# Altium schematic symbol library black_V6.SCHLIB: 16 symbols
Pins are listed as number, name and electrical type; pins without a type are passive.

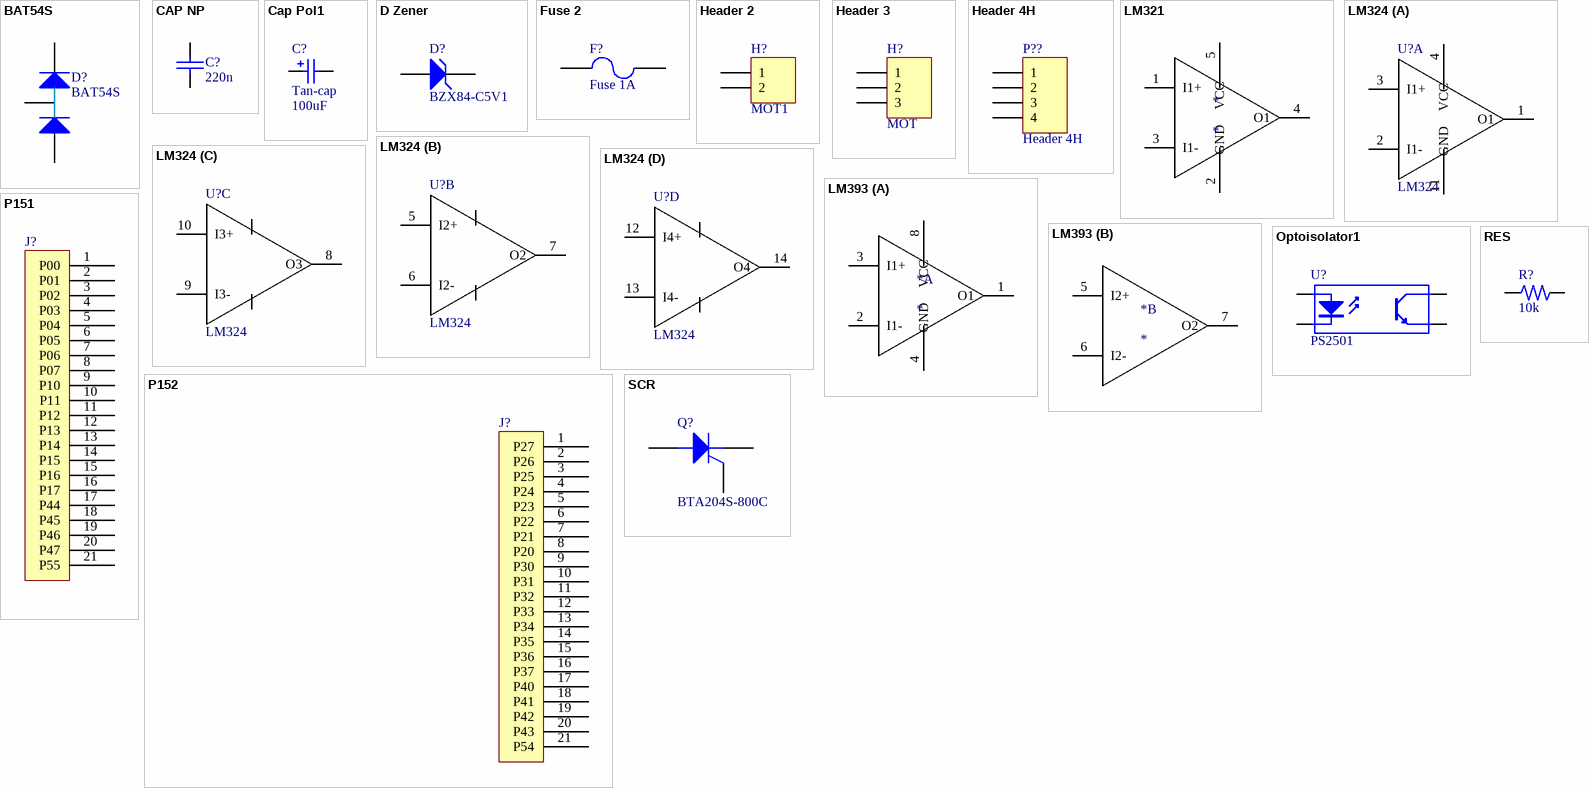
[diagram p0: symbols BAT54S to SCR]

## BAT54S
designator D?
Manufacturer: Vishay; Digikey: http://www.digikey.com/product-detail/en/BAT54S-HE3-18/BAT54S-HE3-18-ND/4826904; Part: BAT54s; Package: SOT23; Cost: 0.04
footprint sot23-D
footprint SOT23_D
pins: 1 A, 2 K, 3 S

## CAP NP
designator C?, comment 220n
CAP NL; manufacturer: Yageo; part number: CC0603KRX7R9BB103; remark: C-CAP 10N 50V X7R  0603 K
footprint C0603
footprint C0805
footprint 1608[0603] (Chip Capacitor; Body 1.6 x 0.8 mm (LxW typ))
footprint Y-cap
footprint R1206w
footprint 1812 (Chip Capacitor; Body 4.5 x 3.2 mm (LxW typ))
footprint R1206w
footprint filmcap
pins: 1, 2

## Cap Pol1
designator C?, comment Tan-cap  value 100uF
Polarized Capacitor (Radial); Published: 8-Jun-2000; LatestRevisionDate: 17-Jul-2002; LatestRevisionNote: Re-released for DXP Platform.; PackageReference: RB7.6-15; Publisher: Altium Limited
footprint RB7.6-15 (Polarized Capacitor (Radial); 2 Leads)
footprint HA-C1 (Capacitor, Radial, Tantalum; Body 1.7 x 2.8 mm (Dia.xH max); Pin Spacing 1.27 mm (typ))
footprint A (Capacitor, Electrolytic, Radial; Body 4 x 5 mm (Dia.xH typ); Pin Spacing 1.5 mm (typ))
footprint B (Capacitor, Electrolytic, Radial; Body 5 x 6.8 mm (Dia.xH typ); Pin Spacing 2 mm (typ))
footprint CAPPR5-5x5 (Capacitor, Electrolytic, Radial; Body 5 x 5 mm (Dia.xH typ); Pin Spacing 5 mm (typ))
footprint CAPPR7.5-16x35 (Capacitor, Electrolytic, Radial; Body 16 x 35 mm (Dia.xH typ); Pin Spacing 7.5 mm (typ))
simulation model CAP (Capacitor)
signal-integrity model Cap Pol
footprint ecap
footprint R1206w
footprint ecap
pins: 1, 2
1 alternate drawing of the same symbol

## D Zener
designator D?, comment BZX84-C5V1
Zener Diode; Manufacturer: NXP; Published: 8-Jun-2000; LatestRevisionDate: 17-Jul-2002; LatestRevisionNote: Re-released for DXP Platform.; PackageReference: DIODE-0.7; Publisher: Altium Limited; Digikey: http://www.digikey.com/product-detail/en/BZX84-C5V1,215/568-1677-2-ND/763281; Part: BZX84-C5V1; Package: SOT23; Cost: 0.02
simulation model ZENER (Diode)
signal-integrity model D Zener
footprint SOT23 (SOT23, 3-Leads, Body 3.0x2.6mm (max), Pitch 0.95mm, IPC Medium Density)
footprint SOT23_D
pins: 1 A, 3 K

## Fuse 2
designator F?, comment Fuse 1A
Fuse; Part: 0251001MXL; Manufacturer: Littelfuse; Published: 8-Jun-2000; LatestRevisionDate: 17-Jul-2002; LatestRevisionNote: Re-released for DXP Platform.; PackageReference: PIN-W2/E2.8; Publisher: Altium Limited; Digikey: http://www.digikey.com/product-detail/en/0251001.MXL/F2313-ND/700718; Package: Axial; Cost: 0.3
footprint PIN-W2/E2.8 (Fuse; 2 Leads)
simulation model FUSE (Spice Subcircuit)
footprint FUSE
footprint FUSE_BOX
footprint FUSE_L
pins: 1, 2

## Header 2
designator H?, comment MOT1
Header, 2-Pin; LatestRevisionDate: 17-Jul-2002; LatestRevisionNote: Re-released for DXP Platform.; Publisher: Altium Limited
footprint HDR1X2 (Connector; Header; 2 Position)
signal-integrity model Connector
footprint cr2032
footprint MOT
pins: 1, 2

## Header 3
designator H?, comment MOT
Header, 3-Pin; Part: US1881; Manufacturer: Melexis; LatestRevisionDate: 17-Jul-2002; LatestRevisionNote: Re-released for DXP Platform.; Publisher: Altium Limited; Digikey: http://www.digikey.com/product-detail/en/US1881EUA-AAA-000-BU/US1881EUA-AAA-000-BU-ND/431867; Package: TO-92; Cost: 0.4
footprint HDR1X3 (Connector; Header; 3 Position)
signal-integrity model Connector
footprint M1881
footprint H_3
pins: 1, 2, 3

## Header 4H
designator P??
Header, 4-Pin, Right Angle; LatestRevisionDate: 17-Jul-2002; LatestRevisionNote: Re-released for DXP Platform.; Publisher: Altium Limited
footprint HDR1X4H (Connector; Header; 4 Position; Right Angle)
signal-integrity model Connector
pins: 1, 2, 3, 4

## LM321
designator *
footprint SOT23-5
pins: 1 I1+, 2 GND, 3 I1-, 4 O1, 5 VCC

## LM324
designator U?
footprint SOP14 (TSOP, 14-Leads, Body 8.6x4.0mm (max), Pitch 1.27mm, IPC Medium Density)
part A pins: 1 O1, 2 I1-, 3 I1+, 4 VCC, 11 GND
part B pins: 5 I2+, 6 I2-, 7 O2
part C pins: 8 O3, 9 I3-, 10 I3+
part D pins: 12 I4+, 13 I4-, 14 O4

## LM393
designator *
part A pins: 1 O1, 2 I1-, 3 I1+, 4 GND, 8 VCC
part B pins: 5 I2+, 6 I2-, 7 O2

## Optoisolator1
designator U?, comment PS2501
4-Pin Phototransistor Optocoupler; Published: 24-Mar-1999; LatestRevisionDate: 04-Mar-2005; LatestRevisionNote: Sch pins 3 & 4 Swapped.; DatasheetDocument: Nov-2003; PackageReference: DIP-4; Publisher: Altium Limited
footprint DIP-4 (DIP; 4 Leads; Row Spacing 7.62 mm; Pitch 2.54 mm)
footprint DIP-4SMD
pins: 1 A "Anode", 2 K "Cathode", 3 E "Emitter", 4 C "Collector"

## P151
designator J?
footprint J2
pins: 1 P00, 2 P01, 3 P02, 4 P03, 5 P04, 6 P05, 7 P06, 8 P07, 9 P10, 10 P11, 11 P12, 12 P13, 13 P14, 14 P15, 15 P16, 16 P17, 17 P44, 18 P45, 19 P46, 20 P47, 21 P55
2 alternate drawings of the same symbol

## P152
designator J?
footprint J1
pins: 1 P27, 2 P26, 3 P25, 4 P24, 5 P23, 6 P22, 7 P21, 8 P20, 9 P30, 10 P31, 11 P32, 12 P33, 13 P34, 14 P35, 15 P36, 16 P37, 17 P40, 18 P41, 19 P42, 20 P43, 21 P54
2 alternate drawings of the same symbol

## RES
designator R?, comment 10k
RES; manufacturer: Yageo; part number: RC0603JR-071KL; remark: RES-TF 1K  0.1W 0603 5%
footprint 0805R
footprint 1206R
footprint 2010R
footprint AXIAL20
footprint R0603 (Chip Resistor, 2-Leads, Body 1.6x0.8mm, IPC Medium Density)
pins: 1, 2

## SCR
designator Q?, comment BTA204S-800C
Silicon Controlled Rectifier; Manufacturer: NXP; Published: 8-Jun-2000; LatestRevisionDate: 17-Jul-2002; LatestRevisionNote: Re-released for DXP Platform.; PackageReference: TO-220-AB; Publisher: Altium Limited; Code_JEDEC: TO-220-AB; Digikey: http://www.digikey.com/product-detail/en/BTA204S-800C,118/568-9608-2-ND/1155228; Part: BTA204S-800C; Package: DPAK; Cost: 0.24
footprint TO-220-AB (TO, Thru-Hole, Vertical, Heatsink Mounted; 3 In-Line Leads; Pitch 2.54 mm)
simulation model SCR (Spice Subcircuit)
footprint 1608[0603] (Chip Capacitor; Body 1.6 x 0.8 mm (LxW typ))
footprint SCR
pins: 1 A, 2 G, 3 K